# EAGLE library part MCP79510T-I/MS (library RTC)
IC RTC CLK/CALENDAR SPI 10-MSOP Manufacturer's datasheet <https://s3.amazonaws.com/snapeda/datasheet/MCP79510T-I/MS_Microchip.pdf>
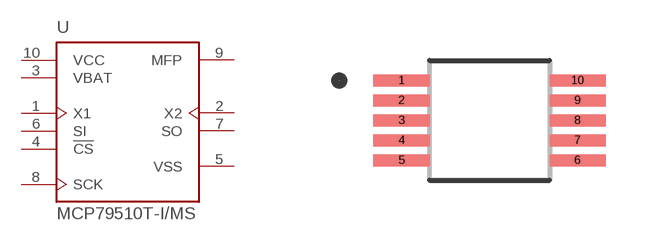
[diagram p11: symbol with the pads of MCP79510T-IMS; footprint MCP79510T-IMS]

Designator prefix U

## MCP79510T-I/MS (CREATED_BY: PCBLayout.com; DIGIKEY_PARTNO: MCP79510T-I/MSCT-ND; MANUFACTURER: Microchip Technology; MPN: MCP79510T-I/MS; PACKAGE: 10-MSOP)  [MCP79510T-IMS]
1  X1  in
2  X2  out
3  VBAT  in
4  !CS  in
5  VSS  pwr
6  SI  in
7  SO  out
8  SCK  in
9  MFP  pas
10  VCC  pwr

## Footprint MCP79510T-IMS (pad centres in mm)
smd 1.4 x 0.3: 1 -2.2,1; 2 -2.2,0.5; 3 -2.2,0; 4 -2.2,-0.5; 5 -2.2,-1; 6 2.2,-1; 7 2.2,-0.5; 8 2.2,0; 9 2.2,0.5; 10 2.2,1